# Altium footprint library S7CAS-APP1.PcbLib: 18 footprints (part 1 of 2)
Each footprint in its own frame and in the unit in brackets; x right, y up, seen from the top. Pads: shape width x height; smd on the part's side, far side on the other; paste and mask are expansions set on the pad; w line width, h text height; cw(c..) or ccw(c..) is an arc to the next point about the centre after c.
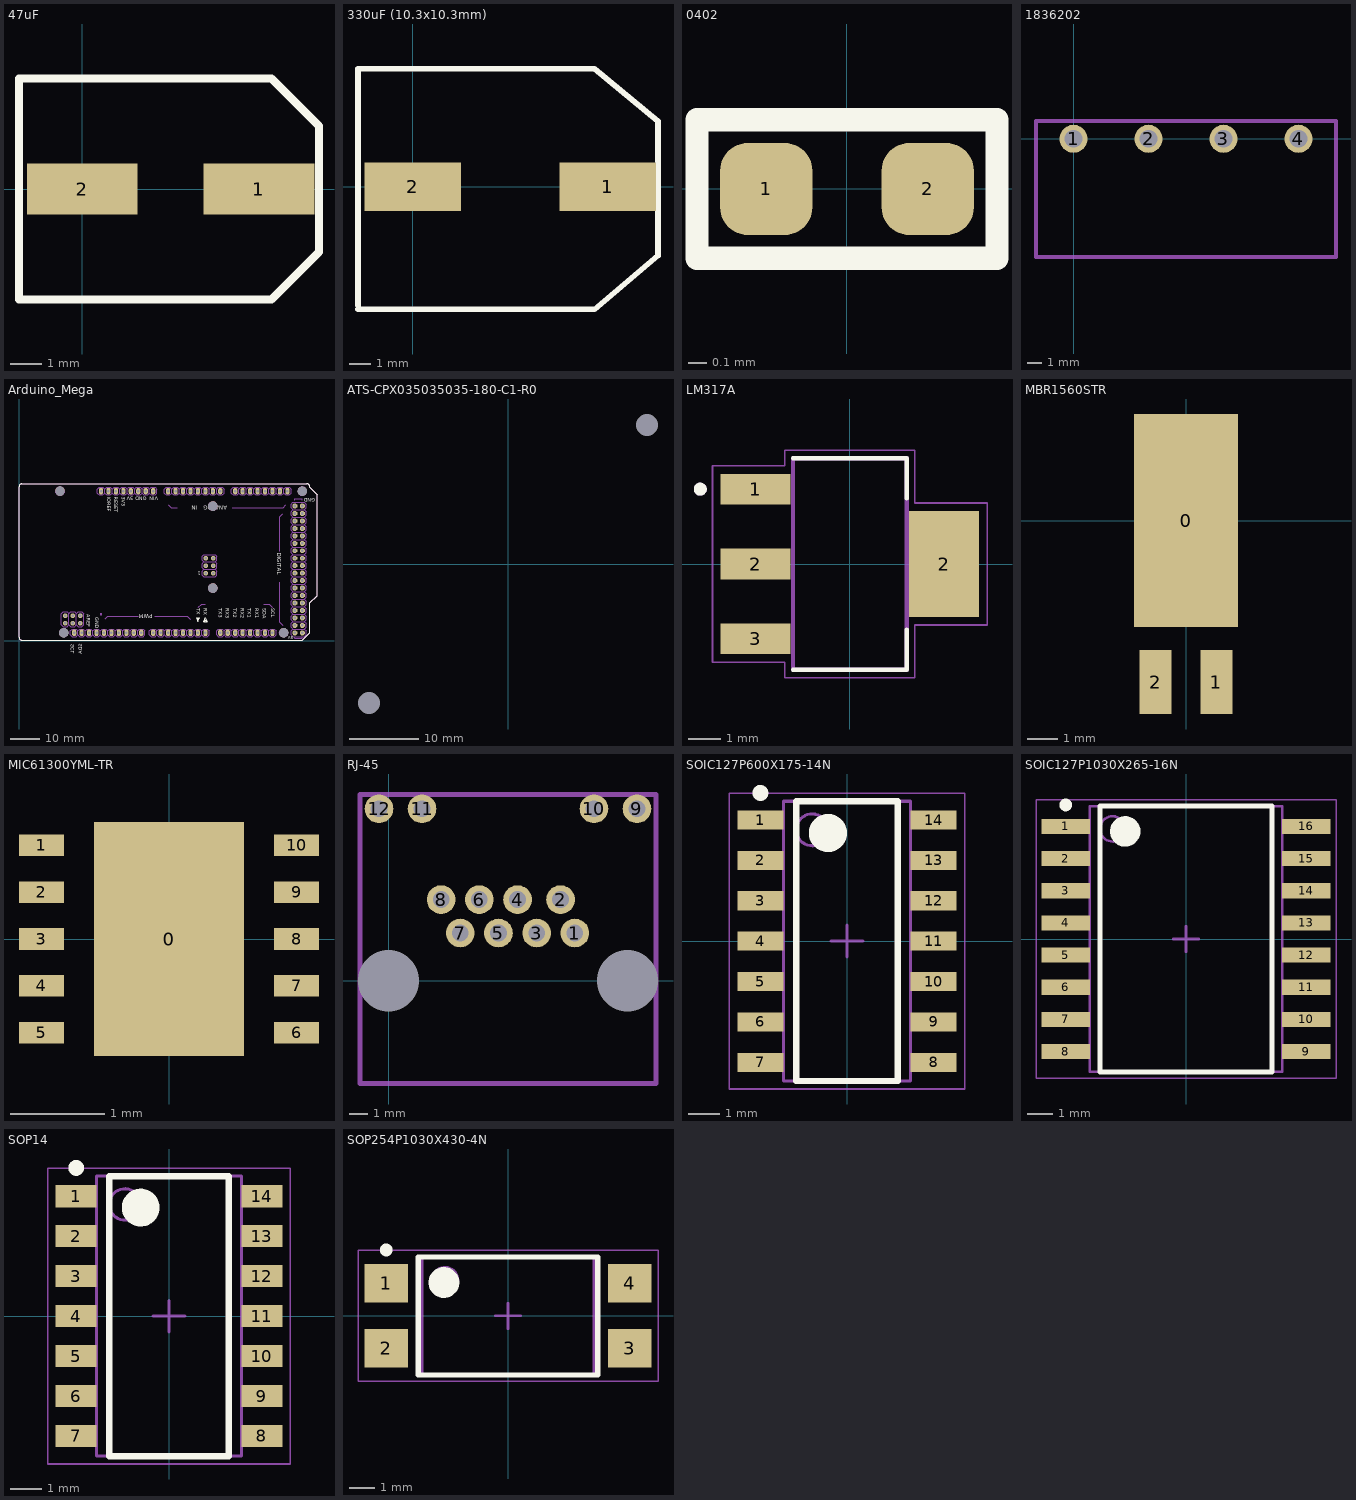
[diagram p0: the footprints below, top view; thin cyan lines are the x and y axes]

## 47uF [mm] "CAP ALUM POLY 47UF 20% 16V SMD"
pads (2):
  rect 3.5x1.6 all layers, no hole: 1(5.6,0) 2(0,0)
Top Overlay:
  lines w0.254: -2,-3.5 5,-3.5 6,-3.5 7.5,-2 7.5,2 6,3.5 -2,3.5 -2,-3.5

## 330uF (10.3x10.3mm) [mm]
pads (2):
  rect 4.4x2.2 all layers, no hole: 1(8.9,0) 2(0,0)
Top Overlay:
  lines w0.254: -2.5,-5.6 8.3,-5.6 11.2,-3.14 11.2,3 8.3,5.4 -2.5,5.4 -2.5,-5.4

## 0402 [mil] "Standart 0402"
pads (2):
  rrect60% 20x20 smd: 1(-17.5,0) 2(17.5,0)
Top Overlay:
  lines w5: -32.5,-15 -32.5,15 32.5,15 32.5,-15 -32.5,-15
3D body "res0402.step": height 16.14, standoff 0, extent -22.63,-10.82 22.64,10.83

## 1836202 [mm] "TERM BLOCK HDR 4POS 90DEG 5.08MM"
pads (4):
  round 1.905 hole 1.2: 1(0,0) 2(5.08,0) 3(10.16,0) 4(15.24,0)
Mechanical 1:
  lines w0.254: -2.54,-8 -2.54,1.2 17.78,1.2 17.78,-8 -2.54,-8

## Arduino_Mega [mil]
pads (104):
  oval 56x89.6 hole 33.46: 1(1100,2006.3) 2(1200,2006.3) 3(1300,2006.3) 4(1400,2006.3) 5(1500,2006.3) 6(1600,2006.3) 7(1700,2006.3) 8(1800,2006.3) 9(2000,2006.3) 10(2100,2006.3) 11(2200,2006.3) 12(2300,2006.3) 13(2400,2006.3) 14(2500,2006.3) 15(2600,2006.3) 16(2700,2006.3) 17(2900,2006.3) 18(3000,2006.3) 19(3100,2006.3) 20(3200,2006.3) 21(3300,2006.3) 22(3400,2006.3) 23(3500,2006.3) 24(3600,2006.3) 61(3400,106.3) 62(3300,106.3) 63(3200,106.3) 64(3100,106.3) 65(3000,106.3) 66(2900,106.3) 67(2800,106.3) 68(2700,106.3) 69(2500,106.3) 70(2400,106.3) 71(2300,106.3) 72(2200,106.3) 73(2100,106.3) 74(2000,106.3) 75(1900,106.3) 76(1800,106.3) 77(1640,106.3) 78(1540,106.3) 79(1440,106.3) 80(1340,106.3) 81(1240,106.3) 82(1140,106.3) 83(1040,106.3) 84(940,106.3) 85(840,106.3) 86(740,106.3)
  oct 66x66 / inner round 60.98 / far side oct 66x66 hole 37.4: 25(3700,106.3) 26(3800,106.3) 27(3700,206.3) 28(3800,206.3) 29(3700,306.3) 30(3800,306.3) 31(3700,406.3) 32(3800,406.3) 33(3700,506.3) 34(3800,506.3) 35(3700,606.3) 36(3800,606.3) 37(3700,706.3) 38(3800,706.3) 39(3700,806.3) 40(3800,806.3) 41(3700,906.3) 42(3800,906.3) 43(3700,1006.3) 44(3800,1006.3) 45(3700,1106.3) 46(3800,1106.3) 47(3700,1206.3) 48(3800,1206.3) 49(3700,1306.3) 50(3800,1306.3) 51(3700,1406.3) 52(3800,1406.3) 53(3700,1506.3) 54(3800,1506.3) 55(3700,1606.3) 56(3800,1606.3) 57(3700,1706.3) 58(3800,1706.3) 59(3700,1806.3) 60(3800,1806.3)
  oct 61.02x61.02 / inner round 56.38 / far side oct 61.02x61.02 hole 37.4: 87(820,236.3) 88(820,336.3) 89(720,236.3) 90(720,336.3) 91(620,236.3) 92(620,336.3) 93(2505,906.3) 94(2605,906.3) 95(2505,1006.3) 96(2605,1006.3) 97(2505,1106.3) 98(2605,1106.3)
  round 125.98 hole 125.98 unplated: MH1(3800,2006.3) MH2(600,106.3) MH3(3550,106.3) MH4(550,2006.3) MH5(2600,706.3) MH6(2600,1806.3)
Top Layer:
  lines w8: 940,106.3 940,136.3 ; 1240,106.3 1250,131.3 ; 1540,106.3 1540,131.3 ; 1795,106.3 1800,106.3 ; 2300,106.3 2300,116.3 ; 2400,106.3 2400,116.3 ; 3670,206.3 3700,206.3
Bottom Layer:
  lines w8: 2300,1982.3 2304,1986.3 2304,1994.3 2300,1998.3 2300,2006.3 ; 2400,2006.3 2400,2010.3
  lines w32: 3690,1796.3 3700,1806.3
  lines w50: 820,336.3 825,341.3
Top Overlay:
  lines w10: 0,45.67 ccw(c39.37,45.67) 39.37,6.3 3800,6.3 3900,106.3 3900,506.3 4000,606.3 4000,1956.3 3900,2056.3 3900,2066.93 ccw(c3860.63,2066.93) 3860.63,2106.3 39.37,2106.3 ccw(c39.37,2066.93) 0,2066.93 0,45.67
  lines w16: 2375,306.3 2400,256.3 2425,306.3 ; 2375,306.3 2400,281.3 ; 2375,306.3 2400,306.3 ; 2400,281.3 2425,306.3 ; 2400,281.3 2400,306.3 ; 2400,306.3 2425,306.3 ; 2475,256.3 2500,256.3 ; 2475,256.3 2500,306.3 2525,256.3 ; 2475,256.3 2500,281.3 ; 2500,256.3 2525,256.3 ; 2500,256.3 2500,281.3 ; 2500,281.3 2525,256.3
  text "RESET" at 1279.53,1929.13 h47.6
  text "3V3" at 1377.95,1929.13 h47.6
  text "IOREF" at 1181.1,1929.13 h47.6
  text "GND" at 1712.6,1929.13 h47.6
  text "VIN" at 1870.08,1929.13 h47.6
  text "5V" at 1535.43,1929.13 h47.6
  text "5V" at 3681.1,59.06 h37.4
  text "SCL" at 3385.83,433.07 h47.6
  text "SDA" at 848.83,-43.18 h47.6
  text "GND" at 1023.62,314.96 h47.6
  text "AREF" at 905.51,354.33 h47.6
  text "SCL" at 738.83,-48.18 h47.6
  text "RX" at 2480.32,433.07 h47.6
  text "PWM" at 1791.34,354.33 h56.1
  text "1" at 2440.94,925.2 h42.5
  text "ANALOG   IN" at 2795.28,1811.02 h56.1
  text "GND" at 3976.38,1909.45 h47.6
  text "DIGITAL" at 3464.57,1181.1 h56.1
  text "TX3" at 2677.17,433.07 h47.6
  text "RX3" at 2775.59,433.07 h47.6
  text "SDA" at 3267.72,433.07 h47.6
  text "RX1" at 3169.29,433.07 h47.6
  text "TX1" at 3070.87,433.07 h47.6
  text "RX2" at 2972.44,433.07 h47.6
  text "TX2" at 2874.02,433.07 h47.6
  text "TX" at 2381.89,433.07 h47.6
Keep-Out Layer:
  drawing of 6 lines, arcs and shapes, not listed
Keep-Out Layer:
  lines w10: 0,45.67 ccw(c39.37,45.67) 39.37,6.3 3800,6.3 3900,106.3 3900,506.3 4000,606.3 4000,1956.3 3900,2056.3 3900,2066.93 ccw(c3860.63,2066.93) 3860.63,2106.3 39.37,2106.3 ccw(c39.37,2066.93) 0,2066.93 0,45.67
Mechanical 3:
  drawing of 98 lines, arcs and shapes, not listed
Mechanical 7:
  drawing of 549 lines, arcs and shapes, not listed
  text "4" at 2430,1921.3 h47.6
  text "7" at 2730,1921.3 h47.6
  text "6" at 2625,1921.3 h47.6
  text "5" at 2525,1921.3 h47.6
  text "15" at 3625,1921.3 h47.6
  text "14" at 3530,1921.3 h47.6
  text "12" at 3330,1921.3 h47.6
  text "13" at 3430,1921.3 h47.6
  text "8" at 2930,1921.3 h47.6
  text "11" at 3230,1921.3 h47.6
  text "10" at 3130,1921.3 h47.6
  text "9" at 3030,1921.3 h47.6
  text "10" at 1475,281.3 h47.6
  text "9" at 1575,231.3 h47.6
  text "11" at 1375,281.3 h47.6
  text "12" at 1275,281.3 h47.6
  text "13" at 1175,281.3 h47.6
  text "8" at 1675,231.3 h47.6
  text "14" at 2725,266.3 h47.6
  text "15" at 2825,266.3 h47.6
  text "16" at 2925,266.3 h47.6
  text "18" at 3125,266.3 h47.6
  text "21" at 3425,266.3 h47.6
  text "17" at 3025,266.3 h47.6
  text "20" at 3325,266.3 h47.6
  text "19" at 3225,266.3 h47.6
  text "1" at 2120,1921.3 h47.6
  text "0" at 2030,1921.3 h47.6
  text "3" at 2330,1921.3 h47.6
  text "2" at 2230,1921.3 h47.6
  text "22" at 3550,231.3 h47.6
  text "24" at 3550,331.3 h47.6
  text "26" at 3550,431.3 h47.6
  text "28" at 3550,531.3 h47.6
  text "4" at 2125,231.3 h47.6
  text "2" at 2325,231.3 h47.6
  text "1" at 2425,231.3 h47.6
  text "0" at 2525,231.3 h47.6
  text "3" at 2225,231.3 h47.6
  text "5" at 2025,231.3 h47.6
  text "6" at 1925,231.3 h47.6
  text "7" at 1825,231.3 h47.6
  text "47" at 3875,1431.3 h47.6
  text "41" at 3875,1131.3 h47.6
  text "39" at 3875,1031.3 h47.6
  text "43" at 3875,1231.3 h47.6
  text "49" at 3875,1531.3 h47.6
  text "45" at 3875,1331.3 h47.6
  text "53" at 3875,1731.3 h47.6
  text "51" at 3875,1631.3 h47.6
  text "31" at 3875,631.3 h47.6
  text "33" at 3875,731.3 h47.6
  text "35" at 3875,831.3 h47.6
  text "37" at 3875,931.3 h47.6
  text "42" at 3550,1231.3 h47.6
  text "44" at 3550,1331.3 h47.6
  text "40" at 3550,1131.3 h47.6
  text "38" at 3550,1031.3 h47.6
  text "32" at 3550,731.3 h47.6
  text "30" at 3550,631.3 h47.6
  text "36" at 3550,931.3 h47.6
  text "34" at 3550,831.3 h47.6
  text "46" at 3550,1431.3 h47.6
  text "48" at 3550,1531.3 h47.6
  text "50" at 3550,1631.3 h47.6
  text "52" at 3550,1731.3 h47.6
Top Glue Points:
  region: 1092.13,368.11 1092.13,344.49 1107.87,344.49 1107.87,368.11
Mechanical 20:
  text "ON" at 2865,616.3 h42.5
  text "RX" at 1175,781.3 h42.5
  text "TX" at 1175,691.3 h42.5
  text "L" at 1195,476.3 h42.5
  text "PC2" at 945,1761.3 h42.5
  text "PC1" at 670,1766.3 h42.5
  text "PC1" at 670,1766.3 h42.5
  text "PC2" at 945,1761.3 h42.5
  text "L" at 1195,476.3 h42.5
  text "TX" at 1175,691.3 h42.5
  text "RX" at 1175,781.3 h42.5
  text "ON" at 2865,616.3 h42.5
3D body "arduinoMegaDetailed.STEP": height 572.44, standoff 1.57, extent -266.14,0.79 3998.43,2099.22

## ATS-CPX035035035-180-C1-R0 [mm]
pads (2):
  round 0 hole 3.175: 0(20,20) 15(-20,-20)

## LM317A [mm] "IC REG LIN POS ADJ 1.5A SOT223-4"
pads (4):
  rect 2.15x0.95 smd: 1(-2.9,2.3) 2(-2.9,0) 3(-2.9,-2.3)
  rect 2.15x3.25 smd: 2(2.9,0)
Top Overlay:
  circle w0.2: c-4.6,2.3 r0.1
  lines w0.127: -1.75,-3.25 1.75,-3.25 1.75,-2.01 ; -1.75,3.25 1.75,3.25 1.75,2.01
Mechanical 13:
  circle w0.2: c-4.6,2.3 r0.1
  lines w0.127: -1.75,-3.25 -1.75,3.25 1.75,3.25 1.75,-3.25 -1.75,-3.25
Mechanical 15:
  lines w0.05: -4.225,-3.025 -4.225,3.025 -2,3.025 -2,3.5 2,3.5 2,1.875 4.225,1.875 4.225,-1.875 2,-1.875 2,-3.5 -2,-3.5 -2,-3.025 -4.225,-3.025

## MBR1560STR [mm]
pads (3):
  rect 3.4x7 all layers, no hole: 0(0,0)
  rect 1.05x2.1 all layers, no hole: 1(1,-5.3) 2(-1,-5.3)

## MIC61300YML-TR [mm]
pads (11):
  rect 1.6x2.5 all layers, no hole: 0(0,0)
  rect 0.48x0.23 all layers, no hole: 1(-1.36,1) 2(-1.36,0.5) 3(-1.36,0) 4(-1.36,-0.5) 5(-1.36,-1) 6(1.36,-1) 7(1.36,-0.5) 8(1.36,0) 9(1.36,0.5) 10(1.36,1)
3D body "MLF-10_ML_MCH.step": height 0.99, standoff 0, extent -1.499,-1.499 1.499,1.499
3D body "MLF-10_ML_MCH.step": height 0.99, standoff 0, extent -1.499,-1.499 1.499,1.499

## PTH04T260WAZ [mil]

## RJ-45 [mil] "RJHSE-5081"
height 520
pads (14):
  round 0 hole 128: 0(0,0) 0(500,0)
  round 60 hole 35: 1(390,100) 2(360,170) 3(310,100) 4(270,170) 5(230,100) 6(190,170) 7(150,100) 8(110,170) 9(520,360) 10(430,360) 11(70,360) 12(-20,360)
Mechanical 1:
  lines w10: -60,-215 -60,390 560,390 560,-215 -60,-215
3D body "M-RJHSE-508X-REVT1.STEP": height 520.94, standoff -124.22, extent -59.48,-215.73 560.52,390.02

## SOIC127P600X175-14N [mm] "SOIC, 14-Leads, Body 8.65x3.90mm, Pitch 1.27mm, IPC Medium Density"
height 1.75
pads (14):
  rect 1.45x0.6 smd: 1(-2.725,3.81) 2(-2.725,2.54) 3(-2.725,1.27) 4(-2.725,0) 5(-2.725,-1.27) 6(-2.725,-2.54) 7(-2.725,-3.81) 8(2.725,-3.81) 9(2.725,-2.54) 10(2.725,-1.27) 11(2.725,0) 12(2.725,1.27) 13(2.725,2.54) 14(2.725,3.81)
Top Overlay:
  circle w0.25: c-2.725,4.66 r0.125
  circle w0.6: c-0.6,3.4 r0.3
  lines w0.2: -1.6,-4.4 -1.6,4.4 1.6,4.4 1.6,-4.4 -1.6,-4.4
Mechanical 13:
  circle w0.1: c-1.1,3.5 r0.5
  lines w0.1: -2,-4.4 -2,4.4 2,4.4 2,-4.4 -2,-4.4
Mechanical 15:
  lines w0.05: -3.7,-4.65 -3.7,4.65 3.7,4.65 3.7,-4.65 -3.7,-4.65
  lines w0.1: -0.5,0 0.5,0 ; 0,-0.5 0,0.5
3D body "SOIC127P600X175-14N.step": height 1.75, standoff 0, extent -3,-4.4 3,4.4

## SOIC127P1030X265-16N [mm] "SOIC, 16-Leads, Body 10.30x7.50mm, Pitch 1.27mm, IPC Medium Density"
height 2.65
pads (16):
  rect 1.9x0.6 smd: 1(-4.75,4.445) 2(-4.75,3.175) 3(-4.75,1.905) 4(-4.75,0.635) 5(-4.75,-0.635) 6(-4.75,-1.905) 7(-4.75,-3.175) 8(-4.75,-4.445) 9(4.75,-4.445) 10(4.75,-3.175) 11(4.75,-1.905) 12(4.75,-0.635) 13(4.75,0.635) 14(4.75,1.905) 15(4.75,3.175) 16(4.75,4.445)
Top Overlay:
  circle w0.6: c-2.4,4.25 r0.3
  circle w0.25: c-4.75,5.295 r0.125
  lines w0.2: -3.4,-5.25 3.4,-5.25 3.4,5.25 -3.4,5.25 -3.4,-5.25
Mechanical 13:
  circle w0.1: c-2.9,4.35 r0.5
  lines w0.1: -3.8,-5.25 3.8,-5.25 3.8,5.25 -3.8,5.25 -3.8,-5.25
Mechanical 15:
  lines w0.05: -5.925,-5.5 5.925,-5.5 5.925,5.5 -5.925,5.5 -5.925,-5.5
  lines w0.1: -0.5,0 0.5,0 ; 0,-0.5 0,0.5
3D body "SOIC127P1030X265-16N.step": height 2.65, standoff 0, extent -5.162,-5.25 5.162,5.25

## SOP14 [mm] "SOP14 pour LM339"
height 1.5
pads (14):
  rect 1.3x0.7 smd: 1(-2.95,3.81) 2(-2.95,2.54) 3(-2.95,1.27) 4(-2.95,0) 5(-2.95,-1.27) 6(-2.95,-2.54) 7(-2.95,-3.81) 8(2.95,-3.81) 9(2.95,-2.54) 10(2.95,-1.27) 11(2.95,0) 12(2.95,1.27) 13(2.95,2.54) 14(2.95,3.81)
Top Overlay:
  circle w0.6: c-0.9,3.45 r0.3
  circle w0.25: c-2.95,4.71 r0.125
  lines w0.2: -1.9,-4.45 1.9,-4.45 1.9,4.45 -1.9,4.45 -1.9,-4.45
Mechanical 13:
  circle w0.1: c-1.4,3.55 r0.5
  lines w0.1: -2.3,-4.45 2.3,-4.45 2.3,4.45 -2.3,4.45 -2.3,-4.45
Mechanical 15:
  lines w0.05: -3.85,-4.7 3.85,-4.7 3.85,4.7 -3.85,4.7 -3.85,-4.7
  lines w0.1: -0.5,0 0.5,0 ; 0,-0.5 0,0.5
3D body "SOP14.step": height 1.5, standoff 0, extent -3.1,-4.45 3.1,4.45

## SOP254P1030X430-4N [mm] "SOP, 4-Leads, Body 4.58x6.50mm, Pitch 2.54mm, IPC Medium Density"
height 4.3
pads (4):
  rect 1.7x1.5 smd: 1(-4.75,1.27) 2(-4.75,-1.27) 3(4.75,-1.27) 4(4.75,1.27)
Top Overlay:
  circle w0.6: c-2.5,1.3 r0.3
  circle w0.25: c-4.75,2.57 r0.125
  lines w0.2: -3.5,-2.3 3.5,-2.3 3.5,2.3 -3.5,2.3 -3.5,-2.3
Mechanical 13:
  circle w0.1: c-2.45,1.4 r0.5
  lines w0.1: -3.35,-2.3 3.35,-2.3 3.35,2.3 -3.35,2.3 -3.35,-2.3
Mechanical 15:
  lines w0.05: -5.85,-2.55 5.85,-2.55 5.85,2.55 -5.85,2.55 -5.85,-2.55
  lines w0.1: -0.5,0 0.5,0 ; 0,-0.5 0,0.5
3D body: height 4.3, standoff 0.8, extent -3.35,-2.3 3.35,2.3

## SOP-14 [mil] "LM339"